# EAGLE library part WE-LAN_10G_749050010U (library WE-LAN_10G)
WE-LAN 10G Transformer 10Gbit Base-T Characteristics 10G Base-T PoE(+) over 4 pairs up to 150 W Compliant with IEEE standards: 802.3af, 802.3at, 802.3an and 802.3bt Suitable for industrial temperatures: -40°C up to +105°C Applications Office and factory access points Gateways Servers High-speed routers and switches HDBaseT applications <https://www.we-online.com/components/media/o84657v209%20WE-LAN_749050010-749052012_4C%20-%20Kopie.jpg> Details see: www.we-online.com/en/components/products/WE-LAN-10G <www.we-online.com/catalog/WE-LAN-10G/?utm_source=eagle_model&utm_medium=description_link&utm_campaign=eisos_eagle> Updated by Ella Wu 2019-07-22 2019 (C) Würth Elektronik
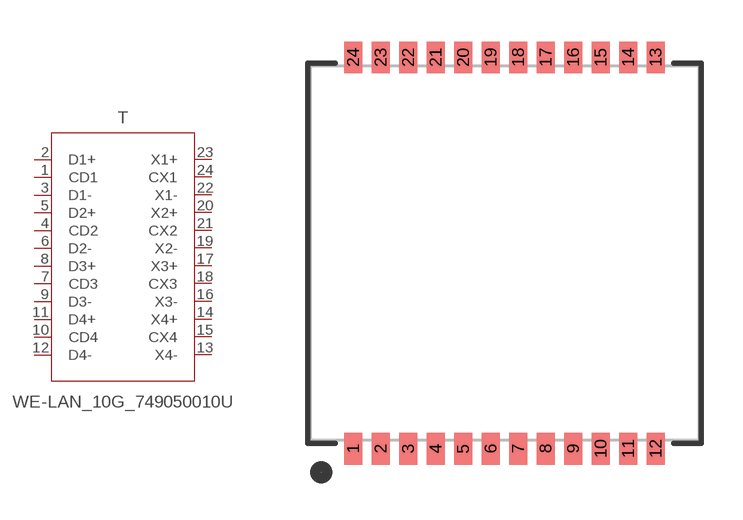
[diagram p12: symbol with the pads of WE-LAN_10G_749050010U; footprint WE-LAN_10G_749050010U]

Designator prefix T

## WE-LAN_10G_749050010U (DATA-RATE: 10G Base-T; DATASHEET-URL: https://www.we-online.com/redexpert/spec/749050010U?ae; IMPROVED-CMRR: No; L: 200uH; MOUNT: SMT; OPERATING-TEMPERATURE: 0 °C up to +70 °C; PART-NUMBER: 749050010U; POE: non-PoE; PORTS: 1; VALUE: 200uH; VT: 1500V(RMS))  [WE-LAN_10G_749050010U]
1  CD1  pas
2  D1+  pas
3  D1-  pas
4  CD2  pas
5  D2+  pas
6  D2-  pas
7  CD3  pas
8  D3+  pas
9  D3-  pas
10  CD4  pas
11  D4+  pas
12  D4-  pas
13  X4-  pas
14  X4+  pas
15  CX4  pas
16  X3-  pas
17  X3+  pas
18  CX3  pas
19  X2-  pas
20  X2+  pas
21  CX2  pas
22  X1-  pas
23  X1+  pas
24  CX1  pas

## Footprint WE-LAN_10G_749050010U (pad centres in mm)
WE-LAN 10G Transformer 10Gbit Base-T
smd 0.64 x 1.14: 1 -5.445,-7.05; 2 -4.455,-7.05; 3 -3.465,-7.05; 4 -2.475,-7.05; 5 -1.485,-7.05; 6 -0.495,-7.05; 7 0.495,-7.05; 8 1.485,-7.05; 9 2.475,-7.05; 10 3.465,-7.05; 11 4.455,-7.05; 12 5.445,-7.05; 13 5.445,7.05; 14 4.455,7.05; 15 3.465,7.05; 16 2.475,7.05; 17 1.485,7.05; 18 0.495,7.05; 19 -0.495,7.05; 20 -1.485,7.05; 21 -2.475,7.05; 22 -3.465,7.05; 23 -4.455,7.05; 24 -5.445,7.05